# Altium footprint library PushButton.PcbLib: 1 footprints
Each footprint in its own frame and in the unit in brackets; x right, y up, seen from the top. Pads: shape width x height; smd on the part's side, far side on the other; paste and mask are expansions set on the pad; w line width, h text height; cw(c..) or ccw(c..) is an arc to the next point about the centre after c.
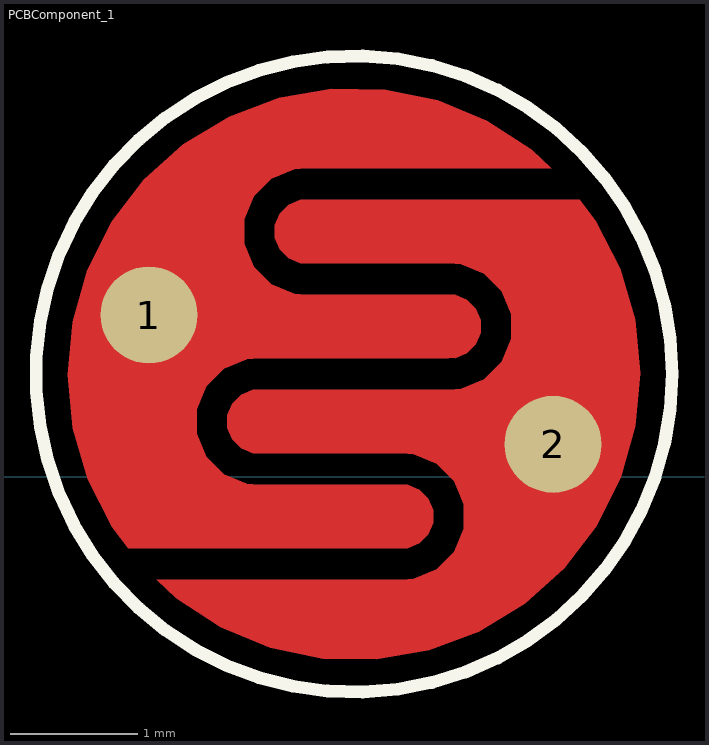
[diagram p0: the footprint, top view; thin cyan lines are the x and y axes]

## PCBComponent_1 [mil]
pads (2):
  round 30 smd: 1(-210,50) 2(-85,10)
Top Layer:
  region: -76.81,85.61 -161.28,85.61 -163.22,85.61 -166.82,84.12 -169.58,81.36 -171.07,77.76 -171.07,73.87 -169.58,70.27 -166.82,67.51 -163.22,66.02 -161.28,66.02 -117.2,66.02 -113.38,65.64 -106.32,62.72 -100.91,57.32 -97.99,50.25 -97.99,42.61 -100.91,35.55 -106.32,30.14 -113.38,27.22 -117.2,26.84 -175.97,26.84 -177.92,26.84 -181.52,25.35 -184.27,22.6 -185.76,19 -185.76,15.1 -184.27,11.5 -181.52,8.75 -177.92,7.26 -175.97,7.26 -175.97,7.25 -131.89,7.25 -128.07,6.88 -121.01,3.95 -115.61,-1.45 -112.68,-8.51 -112.68,-16.16 -115.61,-23.22 -121.01,-28.62 -128.07,-31.55 -131.89,-31.92 -207.56,-31.92 -201.58,-37.64 -187.73,-46.66 -172.43,-52.94 -156.24,-56.27 -139.71,-56.53 -123.42,-53.71 -107.94,-47.92 -93.8,-39.34 -81.5,-28.29 -71.48,-15.14 -64.07,-0.36 -59.54,15.54 -58.05,32 -59.64,48.46 -64.26,64.33 -71.76,79.07
  region: -85.61,95.4 -161.28,95.4 -165.1,95.03 -172.16,92.1 -177.56,86.7 -180.49,79.64 -180.49,71.99 -177.56,64.93 -172.16,59.53 -165.1,56.6 -161.28,56.23 -117.2,56.23 -115.25,56.23 -111.65,54.74 -108.9,51.98 -107.41,48.38 -107.41,44.48 -108.9,40.88 -111.65,38.13 -115.25,36.64 -117.2,36.64 -175.97,36.64 -179.79,36.26 -186.85,33.34 -192.25,27.93 -195.18,20.87 -195.18,13.23 -192.25,6.17 -186.85,0.76 -179.79,-2.16 -175.97,-2.54 -131.89,-2.54 -129.95,-2.54 -126.35,-4.03 -123.59,-6.79 -122.1,-10.39 -122.1,-14.28 -123.59,-17.88 -126.35,-20.64 -129.95,-22.13 -131.89,-22.13 -216.36,-22.13 -221.41,-15.59 -228.91,-0.85 -233.53,15.02 -235.12,31.48 -233.63,47.94 -229.1,63.84 -221.69,78.62 -211.66,91.77 -199.37,102.82 -185.23,111.4 -169.75,117.19 -153.46,120.01 -136.93,119.75 -120.73,116.42 -105.44,110.14 -91.58,101.12
Top Overlay:
  circle w3.94: c-146.58,31.75 r98.43